# Altium schematic symbol library Tof.SchLib: 2 symbols
Pins are listed as number, name and electrical type; pins without a type are passive.

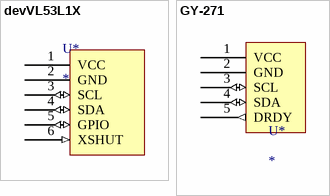
[diagram p0: symbols devVL53L1X to GY-271]

## devVL53L1X
designator U*
ToF sensor
footprint ToF1
footprint TOF2
footprint Tof3
footprint TOF4
pins: 1 VCC (power), 2 GND (power), 3 SCL (io), 4 SDA (io), 5 GPIO (io), 6 XSHUT (in)

## GY-271
designator U*
GY-271
footprint GY-271
pins: 1 VCC (power), 2 GND (power), 3 SCL (io), 4 SDA (io), 5 DRDY (out)